# Altium footprint library RAD_7.5_10_15_22.5mm.PcbLib: 1 footprints
Each footprint in its own frame and in the unit in brackets; x right, y up, seen from the top. Pads: shape width x height; smd on the part's side, far side on the other; paste and mask are expansions set on the pad; w line width, h text height; cw(c..) or ccw(c..) is an arc to the next point about the centre after c.
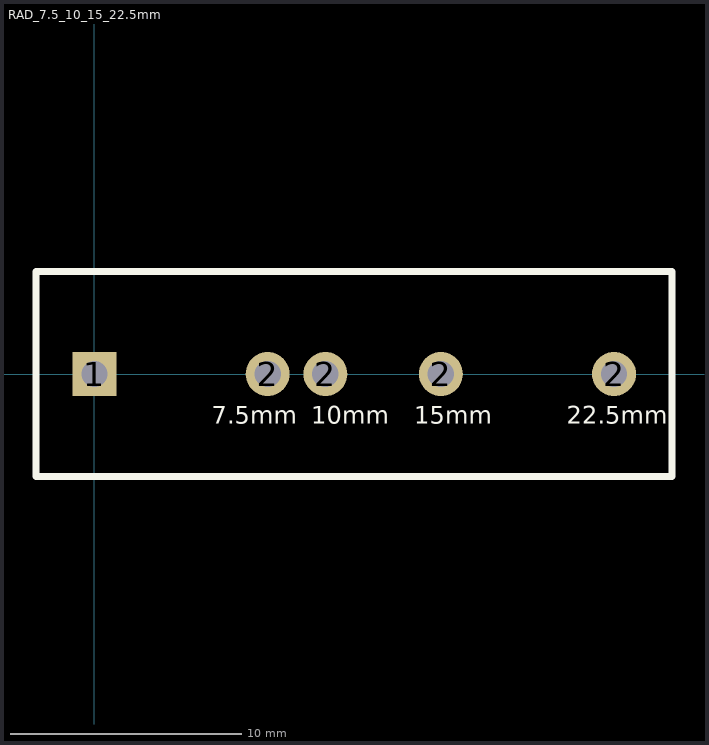
[diagram p0: the footprint, top view; thin cyan lines are the x and y axes]

## RAD_7.5_10_15_22.5mm [mil]
pads (5):
  rect 75x75 hole 45: 1(0,0)
  round 75 hole 45: 2(295.28,0) 2(393.7,0) 2(590.55,0) 2(885.83,0)
Top Overlay:
  lines w12: -100,-175 740,-175 985,-175 985,175 740,175 -100,175 -100,-175
  text "22.5mm" at 805,-85 h30
  text "15mm" at 545,-85 h30
  text "10mm" at 370,-85 h30
  text "7.5mm" at 200,-85 h30